# Altium schematic symbol library Hyperram.SchLib: 1 symbol
Pins are listed as number, name and electrical type; pins without a type are passive.

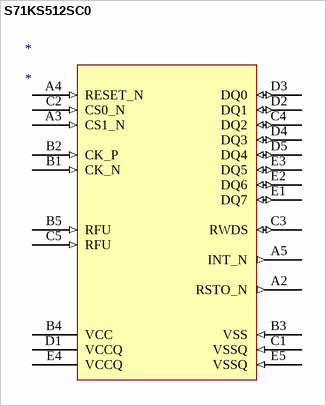
[diagram p0: symbol S71KS512SC0]

## S71KS512SC0
designator *
footprint FBGA24_A-130 (BGA, 24-Balls, Body 8x6mm, Pitch 1mm, A1 missing)
pins: A2 RSTO_N (out), A3 CS1_N (in), A4 RESET_N (in), A5 INT_N (out), B1 CK_N (in), B2 CK_P (in), B3 VSS (in), B4 VCC (power), B5 RFU (in), C1 VSSQ (in), C2 CS0_N (in), C3 RWDS (io), C4 DQ2 (io), C5 RFU (in), D1 VCCQ (power), D2 DQ1 (io), D3 DQ0 (io), D4 DQ3 (io), D5 DQ4 (io), E1 DQ7 (io), E2 DQ6 (io), E3 DQ5 (io), E4 VCCQ (power), E5 VSSQ (in)